# EAGLE library part ARDUINO (library eScooter)
Ardino nano
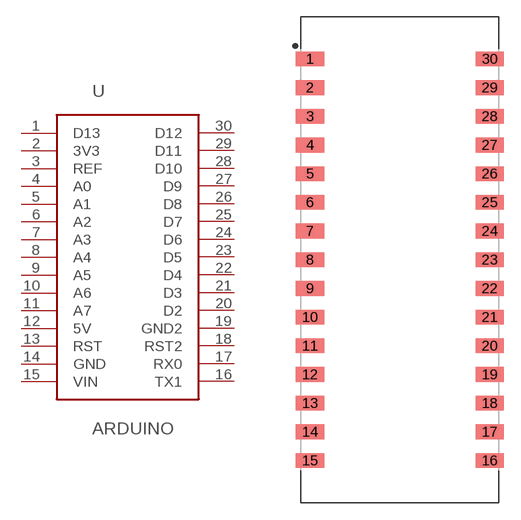
[diagram p1: symbol with the pads of SON254P1750X4300X120-30M; footprint SON254P1750X4300X120-30M]

Designator prefix -

## ARDUINOARDUINO_NANO  [SON254P1750X4300X120-30M]
1  D13
2  3V3  pwr
3  REF
4  A0
5  A1
6  A2
7  A3
8  A4
9  A5
10  A6
11  A7
12  5V  pwr
13  RST  in
14  GND  pwr
15  VIN  pwr
16  TX1  out
17  RX0  in
18  RST2  in
19  GND2  pwr
20  D2
21  D3
22  D4
23  D5
24  D6
25  D7
26  D8
27  D9
28  D10
29  D11
30  D12

## Footprint SON254P1750X4300X120-30M (pad centres in mm)
30-SON (DFN), 2.54 mm pitch, 43.00 X 17.50 X 1.20 mm body 30-pin SON (DFN) package with 2.54 mm pitch with body size 43.00 X 17.50 X 1.20 mm
smd 2.512 x 1.302: 1 -7.95,17.78; 2 -7.95,15.24; 3 -7.95,12.7; 4 -7.95,10.16; 5 -7.95,7.62; 6 -7.95,5.08; 7 -7.95,2.54; 8 -7.95,0; 9 -7.95,-2.54; 10 -7.95,-5.08; 11 -7.95,-7.62; 12 -7.95,-10.16; 13 -7.95,-12.7; 14 -7.95,-15.24; 15 -7.95,-17.78; 16 7.95,-17.78; 17 7.95,-15.24; 18 7.95,-12.7; 19 7.95,-10.16; 20 7.95,-7.62; 21 7.95,-5.08; 22 7.95,-2.54; 23 7.95,0; 24 7.95,2.54; 25 7.95,5.08; 26 7.95,7.62; 27 7.95,10.16; 28 7.95,12.7; 29 7.95,15.24; 30 7.95,17.78